# Altium footprint library PcbLib1.PcbLib: 2 footprints
Each footprint in its own frame and in the unit in brackets; x right, y up, seen from the top. Pads: shape width x height; smd on the part's side, far side on the other; paste and mask are expansions set on the pad; w line width, h text height; cw(c..) or ccw(c..) is an arc to the next point about the centre after c.
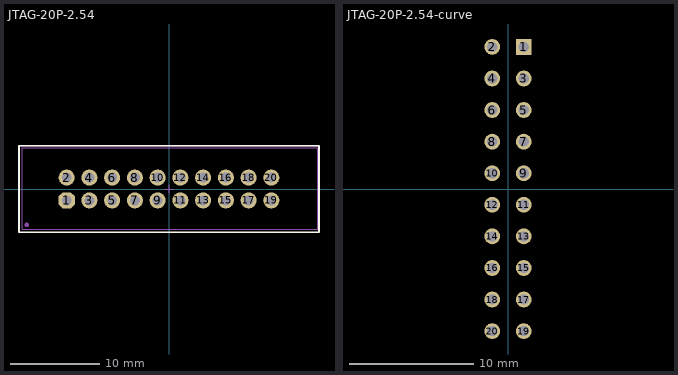
[diagram p0: the footprints below, top view; thin cyan lines are the x and y axes]

## JTAG-20P-2.54 [mm]
height 10
pads (21):
  oct 1.8x1.8 hole 1.1: 1(-11.43,-1.27)
  round 1.8 hole 1.1: 2(-11.43,1.27) 3(-8.89,-1.27) 4(-8.89,1.27) 5(-6.35,-1.27) 6(-6.35,1.27) 7(-3.81,-1.27) 8(-3.81,1.27) 9(-1.27,-1.27) 10(-1.27,1.27) 11(1.27,-1.27) 12(1.27,1.27) 13(3.81,-1.27) 14(3.81,1.27) 15(6.35,-1.27) 16(6.35,1.27) 17(8.89,-1.27) 18(8.89,1.27) 19(11.43,-1.27) 20(11.43,1.27)
  round 0.5 on Mech1: 41(-15.9,-4)
Top Overlay:
  lines w0.2: -16.764,-4.826 -16.764,4.826 16.764,4.826 16.764,-4.826 -16.764,-4.826
Mechanical 1:
  lines w0.1: -16.4,-4.5 16.6,-4.5 16.6,4.6 -16.4,4.6 -16.4,-4.5
Mechanical 15:
  lines w0.1: -0.5,0 0.5,0 ; 0,-0.5 0,0.5 ; -16.764,-4.826 -16.764,4.826 16.764,4.826 16.764,-4.826 -16.764,-4.826
3D body "IDC-20MS.STEP": height 9, standoff -3, extent -16.43,-4.52 16.57,4.58

## JTAG-20P-2.54-curve [mil]
height 169.29
pads (20):
  rect 50x50 hole 32: 1(50,450)
  round 50 hole 32: 2(-50,450) 3(50,350) 4(-50,350) 5(50,250) 6(-50,250) 7(50,150) 8(-50,150) 9(50,50) 10(-50,50) 11(50,-50) 12(-50,-50) 13(50,-150) 14(-50,-150) 15(50,-250) 16(-50,-250) 17(50,-350) 18(-50,-350) 19(50,-450) 20(-50,-450)
3D body "x-PCBModel.step": height 421.26, standoff -74.81, extent -485,-685.55 60.67,695.55